# EAGLE library part CC2652PSIP (library CC2652PSIP)
SimpleLink multiprotocol 2.4-GHz wireless system-in-package module with integrated power amplifier Source: Datasheet <https://www.ti.com/lit/ds/symlink/cc2652psip.pdf?ts=1656508207463&ref_url=https%3A%2F%2Fwww.ti.com%2Fproduct%2FCC2652PSIP>
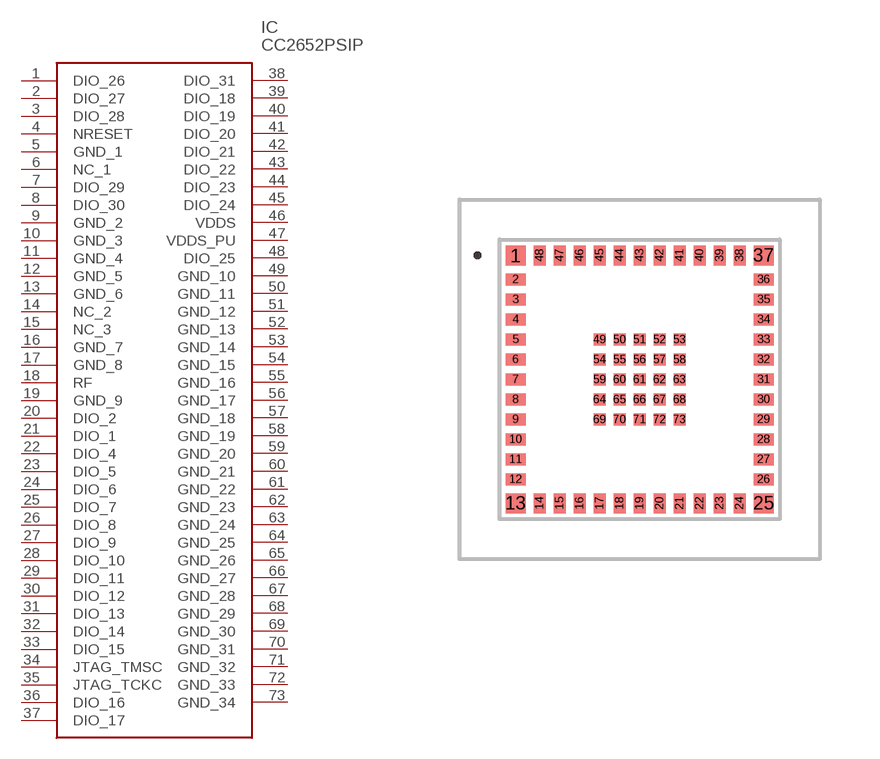
[diagram p0: symbol with the pads of CC2652PSIP; footprint CC2652PSIP]

Designator prefix IC

## CC2652PSIP (Description: SimpleLink multiprotocol 2.4-GHz wireless system-in-package module with integrated power amplifier; Height: 1.51mm; Manufacturer_Name: Texas Instruments; Manufacturer_Part_Number: CC2652PSIP)  [CC2652PSIP]
1  DIO_26
2  DIO_27
3  DIO_28
4  NRESET
5  GND_1
6  NC_1
7  DIO_29
8  DIO_30
9  GND_2
10  GND_3
11  GND_4
12  GND_5
13  GND_6
14  NC_2
15  NC_3
16  GND_7
17  GND_8
18  RF
19  GND_9
20  DIO_2
21  DIO_1
22  DIO_4
23  DIO_5
24  DIO_6
25  DIO_7
26  DIO_8
27  DIO_9
28  DIO_10
29  DIO_11
30  DIO_12
31  DIO_13
32  DIO_14
33  DIO_15
34  JTAG_TMSC
35  JTAG_TCKC
36  DIO_16
37  DIO_17
38  DIO_31
39  DIO_18
40  DIO_19
41  DIO_20
42  DIO_21
43  DIO_22
44  DIO_23
45  DIO_24
46  VDDS
47  VDDS_PU
48  DIO_25
49  GND_10
50  GND_11
51  GND_12
52  GND_13
53  GND_14
54  GND_15
55  GND_16
56  GND_17
57  GND_18
58  GND_19
59  GND_20
60  GND_21
61  GND_22
62  GND_23
63  GND_24
64  GND_25
65  GND_26
66  GND_27
67  GND_28
68  GND_29
69  GND_30
70  GND_31
71  GND_32
72  GND_33
73  GND_34

## Footprint CC2652PSIP (pad centres in mm)
CC2652PSIP-2
smd 0.5 x 0.5: 1 -3.1,3.1; 13 -3.1,-3.1; 25 3.1,-3.1; 37 3.1,3.1
smd 0.5 x 0.3: 2 -3.1,2.5; 3 -3.1,2; 4 -3.1,1.5; 5 -3.1,1; 6 -3.1,0.5; 7 -3.1,0; 8 -3.1,-0.5; 9 -3.1,-1; 10 -3.1,-1.5; 11 -3.1,-2; 12 -3.1,-2.5; 26 3.1,-2.5; 27 3.1,-2; 28 3.1,-1.5; 29 3.1,-1; 30 3.1,-0.5; 31 3.1,0; 32 3.1,0.5; 33 3.1,1; 34 3.1,1.5; 35 3.1,2; 36 3.1,2.5
smd 0.3 x 0.5: 14 -2.5,-3.1; 15 -2,-3.1; 16 -1.5,-3.1; 17 -1,-3.1; 18 -0.5,-3.1; 19 0,-3.1; 20 0.5,-3.1; 21 1,-3.1; 22 1.5,-3.1; 23 2,-3.1; 24 2.5,-3.1; 38 2.5,3.1; 39 2,3.1; 40 1.5,3.1; 41 1,3.1; 42 0.5,3.1; 43 0,3.1; 44 -0.5,3.1; 45 -1,3.1; 46 -1.5,3.1; 47 -2,3.1; 48 -2.5,3.1
smd 0.3 x 0.3: 49 -1,1; 50 -0.5,1; 51 0,1; 52 0.5,1; 53 1,1; 54 -1,0.5; 55 -0.5,0.5; 56 0,0.5; 57 0.5,0.5; 58 1,0.5; 59 -1,0; 60 -0.5,0; 61 0,0; 62 0.5,0; 63 1,0; 64 -1,-0.5; 65 -0.5,-0.5; 66 0,-0.5; 67 0.5,-0.5; 68 1,-0.5; 69 -1,-1; 70 -0.5,-1; 71 0,-1; 72 0.5,-1; 73 1,-1